# Altium schematic symbol library COM Port.SchLib: 4 symbols
Pins are listed as number, name and electrical type; pins without a type are passive.

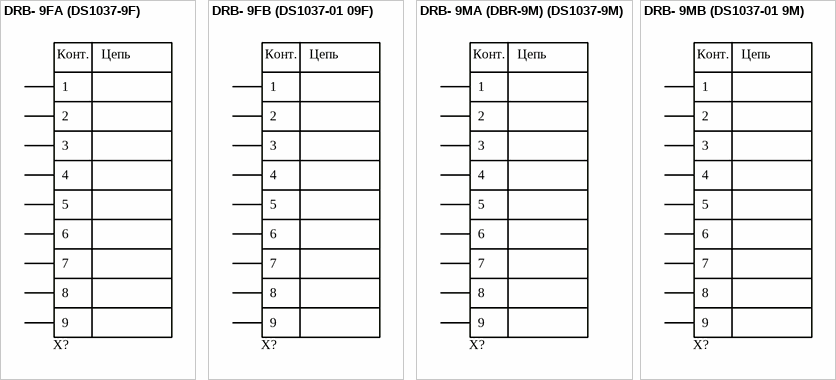
[diagram p0: symbols DRB- 9FA (DS1037-9F) to DRB- 9MB (DS1037-01 9M)]

## DRB- 9FA (DS1037-9F)
designator X?, comment DRB- 9FA  (value not drawn)
DRB- 9FA (DS1037-9F), Розетка 9 pin на плату 7.2мм; Manufacture: CONNFLY ELECTRONIC CO., LTD; Конт.8: CTS; Конт.7: RTS; Конт.4: DTR; Конт.3: TXD; Конт.2: RXD; Конт.1: CD; Конт.9: RI; Конт.5: GND; Конт.6: DSR; Case: DRB- 9FA; HelpURL: https://www.chipdip.ru/product/drb-9fa; Model: DRB- 9FA (DS1037-9F); Value: DRB- 9FA; Name: Розетка
footprint DRB- 9FA (DS1037-9F)
pins: 1 "Вход", 2 "Вход", 3 "Вход", 4 "Вход", 5 "Вход", 6 "Вход", 7 "Вход", 8 "Вход", 9 "Вход"
text: Конт.; Цепь

## DRB- 9FB (DS1037-01 09F)
designator X?, comment DRB- 9FB  (value not drawn)
DRB- 9FB (DS1037-01 09F), Розетка 9 pin на плату 9.4мм; Manufacture: CONNFLY ELECTRONIC CO., LTD; Конт.8: CTS; Конт.7: RTS; Конт.4: DTR; Конт.3: TXD; Конт.2: RXD; Конт.1: CD; Конт.9: RI; Конт.5: GND; Конт.6: DSR; Case: DRB- 9FB; HelpURL: https://www.chipdip.ru/product/drb-9fb; Model: DRB- 9FB (DS1037-01 09F); Value: DRB- 9FB; Name: Розетка
footprint DRB- 9FB (DS1037-01 09F)
pins: 1 "Вход", 2 "Вход", 3 "Вход", 4 "Вход", 5 "Вход", 6 "Вход", 7 "Вход", 8 "Вход", 9 "Вход"
text: Конт.; Цепь

## DRB- 9MA (DBR-9M) (DS1037-9M)
designator X?, comment DRB- 9MA  (value not drawn)
DRB- 9MA (DBR-9M) (DS1037-9M), Вилка 9 pin на плату 7.2мм; Manufacture: CONNFLY ELECTRONIC CO., LTD; Конт.8: CTS; Конт.7: RTS; Конт.4: DTR; Конт.3: TXD; Конт.2: RXD; Конт.1: CD; Конт.9: RI; Конт.5: GND; Конт.6: DSR; Case: DRB- 9MA; HelpURL: https://www.chipdip.ru/product/drb-9ma; Model: DRB- 9MA (DBR-9M) (DS1037-9M); Value: DRB- 9MA; Name: Вилка
footprint DRB- 9MA (DBR-9M) (DS1037-9M)
pins: 1 "Вход", 2 "Вход", 3 "Вход", 4 "Вход", 5 "Вход", 6 "Вход", 7 "Вход", 8 "Вход", 9 "Вход"
text: Конт.; Цепь

## DRB- 9MB (DS1037-01 9M)
designator X?, comment DRB- 9MB  (value not drawn)
DRB- 9MB (DS1037-01 9M), Вилка 9 pin на плату 9.4мм; Manufacture: CONNFLY ELECTRONIC CO., LTD; Конт.8: CTS; Конт.7: RTS; Конт.4: DTR; Конт.3: TXD; Конт.2: RXD; Конт.1: CD; Конт.9: RI; Конт.5: GND; Конт.6: DSR; Case: DRB- 9MB; HelpURL: https://www.chipdip.ru/product/drb-9mb; Model: DRB- 9MB (DS1037-01 9M); Value: DRB- 9MB; Name: Вилка
footprint DRB- 9MB (DS1037-01 9M)
pins: 1 "Вход", 2 "Вход", 3 "Вход", 4 "Вход", 5 "Вход", 6 "Вход", 7 "Вход", 8 "Вход", 9 "Вход"
text: Конт.; Цепь